# Altium footprint library Antennas.PcbLib: 46 footprints (part 1 of 3)
Each footprint in its own frame and in the unit in brackets; x right, y up, seen from the top. Pads: shape width x height; smd on the part's side, far side on the other; paste and mask are expansions set on the pad; w line width, h text height; cw(c..) or ccw(c..) is an arc to the next point about the centre after c.
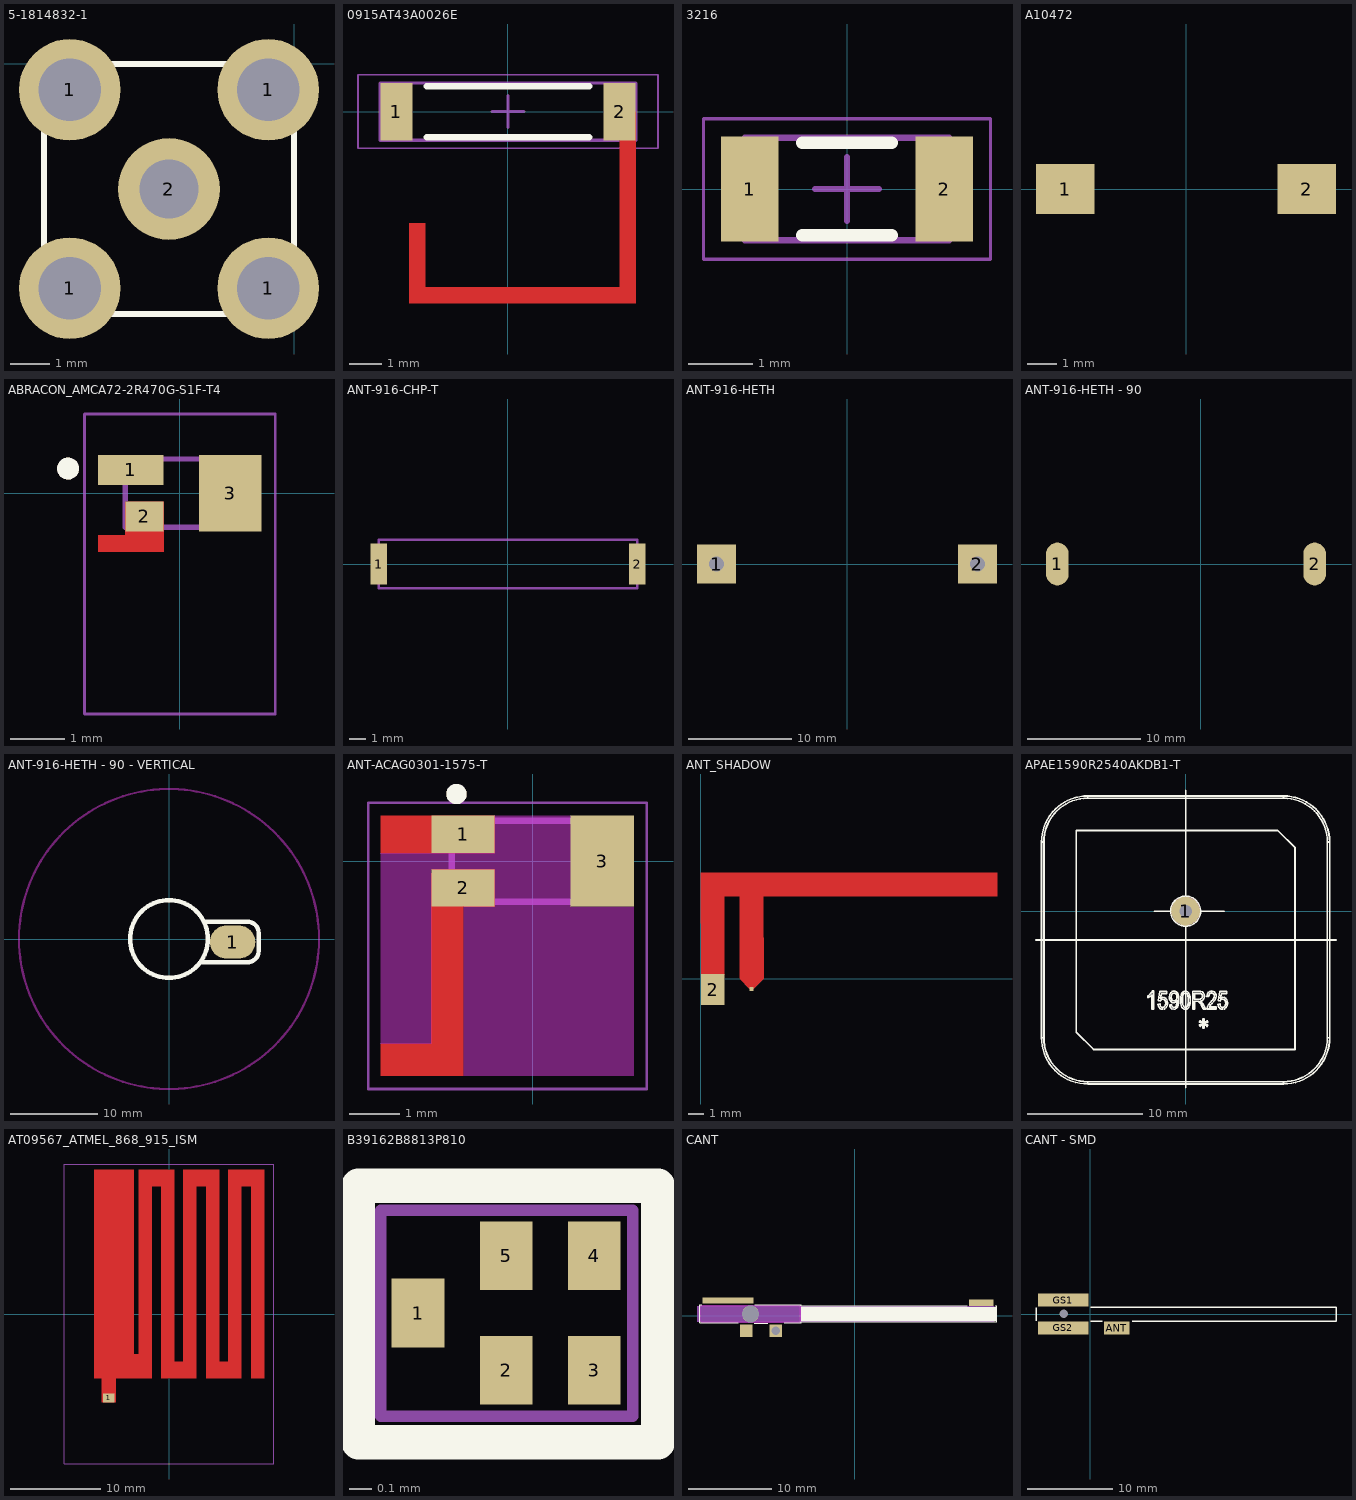
[diagram p0: the footprints below, top view; thin cyan lines are the x and y axes]

## 5-1814832-1 [mm] "CONN SMA JACK STR 50 OHM PCB"
pads (5):
  round 2.6 hole 1.6: 1(-5.74,-5.74) 1(-5.74,-0.66) 1(-0.66,-5.74) 1(-0.66,-0.66)
  round 2.6 hole 1.5: 2(-3.2,-3.2)
Top Overlay:
  lines w0.15: -6.4,-6.4 0,-6.4 0,0 -6.4,0 -6.4,-6.4
3D body "1248990_5-1814832-1.stp": height 9.51, standoff -3.99, extent -6.4,-6.4 0,0

## 0915AT43A0026E [mm] "RF CHIP ANTENNA 902 - 928MHZ"
height 0.8
pads (2):
  rect 1x1.8 smd: 1(-3.5,0) 2(3.5,0)
Top Layer:
  region: -3.1,-6 -3.1,-3.5 -2.6,-3.5 -2.6,-5.5 3.5,-5.5 3.5,0 4,0 4,-6
Top Overlay:
  lines w0.2: -2.55,-0.8 2.55,-0.8 ; -2.55,0.8 2.55,0.8
Mechanical 13:
  lines w0.1: -4,-0.9 -4,0.9 4,0.9 4,-0.9 -4,-0.9
Mechanical 15:
  lines w0.05: -4.7,-1.15 -4.7,1.15 4.7,1.15 4.7,-1.15 -4.7,-1.15
  lines w0.1: -0.5,0 0.5,0 ; 0,-0.5 0,0.5
3D body: height 0.8, standoff 0, extent -3,-0.9 3,0.9
3D body: height 0.8, standoff 0, extent -4,-0.9 -3,0.9
3D body: height 0.8, standoff 0, extent 3,-0.9 4,0.9
3D body: height 0.81, standoff 0, extent -2.667,-0.317 -0.889,0.318

## 3216 [mm] "SMD Chip antenna 3.2x1.6mm"
height 0.55
pads (2):
  rect 0.9x1.65 smd: 1(-1.525,0) 2(1.525,0)
Top Overlay:
  lines w0.2: -0.7,-0.725 0.7,-0.725 ; -0.7,0.725 0.7,0.725
Mechanical 13:
  lines w0.1: -1.6,-0.8 1.6,-0.8 1.6,0.8 -1.6,0.8 -1.6,-0.8
Mechanical 15:
  lines w0.05: -2.25,-1.1 2.25,-1.1 2.25,1.1 -2.25,1.1 -2.25,-1.1
  lines w0.1: -0.5,0 0.5,0 ; 0,-0.5 0,0.5
3D body "RESC3216X06N[1206].step": height 0.55, standoff 0, extent -1.6,-0.8 1.6,0.8

## A10472 [mm] "KIRBii 868/915 MHz Chip Antenna"
pads (2):
  rect 2x1.72 smd: 1(-4.14,0) 2(4.14,0)
3D body "A10472_kirbii.stp": height 3.2, standoff 0, extent -5.004,-1 4.996,1

## ABRACON_AMCA72-2R470G-S1F-T4 [mm] "RF ANT 2.4GHZ CHIP SOLDER SMD"
pads (3):
  rect 1.2x0.55 smd: 1(-0.9,0.425)
  rect 0.7x0.55 smd: 2(-0.65,-0.425)
  rect 1.15x1.4 smd: 3(0.925,0)
Top Layer:
  region: -1,-0.155 -1,-0.775 -1.5,-0.775 -1.5,-1.075 -0.3,-1.075 -0.3,-0.155
Top Overlay:
  circle w0.2: c-2.05,0.45 r0.1
Mechanical 13:
  circle w0.2: c-2.05,0.45 r0.1
  lines w0.1: -1,-0.625 -1,0.625 1,0.625 1,-0.625 -1,-0.625
Mechanical 15:
  lines w0.05: -1.75,-4.05 -1.75,1.45 1.75,1.45 1.75,-4.05 -1.75,-4.05
Multi-Layer:
  pour cut-out: -1.5,-1.075 -0.3,-1.075 -0.3,-0.15 -1,-0.15 -1,-0.775 -1.5,-0.775 -1.5,0.15 -0.3,0.15 -0.3,0.7 -1.5,0.7 -1.5,1.2 1.5,1.2 1.5,0.7 0.35,0.7 0.35,-0.7 1.5,-0.7 1.5,-3.8 -1.5,-3.8
3D body "ACAG0201-2450-T.STEP": height 0.6, standoff 0, extent -1,-0.625 1,0.625

## ANT-916-CHP-T [mm] "CHIP 916MHZ CERAMIC SMD"
pads (2):
  rect 1.016x2.54 smd: 1(-8,0) 2(8,0)
Mechanical 2:
  lines w0.152: -8,-1.5 8,-1.5 8,1.5 -8,1.5 -8,-1.5
3D body: height 1.4, standoff 0, extent -8,-1.372 7.977,1.372
3D body: height 1.5, standoff 0, extent -8.038,-1.41 -6.539,1.41
3D body: height 1.5, standoff 0, extent 6.516,-1.41 8.015,1.41

## ANT-916-HETH [mm]
pads (2):
  rect 3.8x3.8 hole 1.5: 1(-12.7,0) 2(12.7,0)
3D body "ANTENA ESPIRAL.stp": height 12.45, standoff -0.94, extent -11.967,-4.576 12.065,4.322

## ANT-916-HETH - 90 [mm]
pads (2):
  rrect100% 2x3.8 smd: 1(-12.7,0) 2(10.109,0)
3D body "ANTENA ESPIRAL.stp": height 5.54, standoff -3.36, extent -13.278,-1.827 10.754,11.56

## ANT-916-HETH - 90 - VERTICAL [mm]
pads (1):
  rrect100% 5.2x3.8 smd: 1(7.275,-0.35)
Top Overlay:
  circle w0.5: c0,0 r4.45
  lines w0.5: 3.6,-2.675 cw(c3.66,-2.735) 3.66,-2.65 8.653,-2.65 8.98,-2.65 ccw(c8.98,-1.38) 10.25,-1.38 10.25,0.705 ccw(c8.98,0.705) 8.98,1.975 8.55,1.975 4.075,1.975
Keep-Out Layer:
  circle w0.254: c0,0 r17.15
3D body "ANTENA ESPIRAL.stp": height 24.72, standoff 0.69, extent -4.185,-4.319 9.202,4.578

## ANT-ACAG0301-1575-T [mm]
pads (3):
  rect 1.25x0.74 smd: 1(-1.375,0.53) 2(-1.375,-0.53)
  rect 1.25x1.8 smd: 3(1.375,0)
Top Layer:
  region: -0.75,-0.9 -1.37,-0.9 -1.37,-4.24 -3,-4.24 -3,-3.61 -2,-3.61 -2,-0.235 -1.865,-0.22 -2.005,-0.16 -0.75,-0.16
  region: -0.75,0.16 -3,0.16 -3,0.47 -3,0.9 -0.75,0.9
Top Overlay:
  circle w0.2: c-1.505,1.325 r0.1
Keep-Out Layer:
  region: 2,-4.24 -1.365,-4.24 -1.365,-0.9 2,-0.9
  region: -2,-3.61 -3,-3.61 -3,0.16 -2,0.16
  region: -0.75,-0.16 -2,-0.16 -2,0.16 -0.75,0.16
  region: 0.75,-0.9 -0.75,-0.9 -0.75,0.9 0.75,0.9
Mechanical 13:
  circle w0.2: c-1.505,1.325 r0.1
  lines w0.127: -1.6,-0.8 -1.6,0.8 1.6,0.8 1.6,-0.8 -1.6,-0.8
Mechanical 15:
  lines w0.05: -3.25,-4.5 -3.25,1.15 2.25,1.15 2.25,-4.5 -3.25,-4.5
3D body: height 1.35, standoff 0, extent -1.038,-0.595 -0.283,-0.065
3D body "User Library-2450AT18A100E.STEP": height 1.35, standoff -0.05, extent -1.65,-0.85 1.65,0.85

## ANT_SHADOW [mil]
pads (2):
  rect 10x10 smd paste+0 mask+0: 1(128,-25)
  rect 59.06x78.74 smd paste+0 mask+0: 2(30,-27)
Top Layer:
  region: 1,10 0,267.72 748.03,267.72 748.03,208.66 157.48,208.66 158.95,0.69 134,-25 122,-25 97.95,0.69 98.43,208.66 59.06,208.66 59,10

## APAE1590R2540AKDB1-T [mm]
pads (1):
  round 2.5 hole 1.1: 1(0,0)
Top Overlay:
  drawing of 597 lines, arcs and shapes, not listed
3D body "APAE1590R2540AKDB1-T.STEP": height 4.8, standoff -3.1, extent -18,-14.989 12.5,10.011

## AT09567_ATMEL_868_915_ISM [mm]
pads (1):
  rect 1.3x1 smd mask+0.05: 1(-6.7,-9.3)
Top Layer:
  rectangle: 6.569,-7.14 8.069,16.06
  rectangle: 8.05,14.17 9.1,16.06
  rectangle: 9.079,-7.14 10.579,16.06
  rectangle: 5.575,-7.14 6.575,-5.25
  rectangle: -8.31,-7.14 -3.91,16.06
  rectangle: -3.41,-7.14 -1.91,16.06
  rectangle: -3.917,-7.14 -3.379,-4.44
  rectangle: -7.51,-9.85 -5.91,-7.125
  rectangle: -1.91,14.17 -0.9,16.06
  rectangle: -0.9,-7.14 0.6,16.06
  rectangle: 0.575,-7.14 1.61,-5.25
  rectangle: 4.09,-7.14 5.59,16.06
  rectangle: 3.05,14.17 4.1,16.06
  rectangle: 1.58,-7.14 3.08,16.06
Mechanical 1:
  lines w0.1: -11.65,-16.65 -11.65,16.65 11.65,16.65 11.65,-16.65 -11.65,-16.65
Multi-Layer:
  pour cut-out: -11.65,16.65 11.65,16.65 11.65,-9.85 -11.65,-9.85

## B39162B8813P810 [mm]
pads (5):
  rect 0.23x0.3 smd mask+0.068: 1(-1.448,0.584) 2(-1.063,0.334) 3(-0.678,0.334) 4(-0.678,0.834) 5(-1.063,0.834)
Top Overlay:
  lines w0.15: -1.71,0.02 -1.71,1.14 -0.4,1.14 -0.4,0.02 -1.71,0.02
Mechanical 11:
  lines w0.05: -1.61,0.133 -0.51,0.133 -0.51,1.033 -1.61,1.033 -1.61,0.133
3D body: height 0.45, standoff 0, extent -1.519,0.5 -1.36,0.66
3D body: height 0.45, standoff 0.2, extent -1.61,0.13 -0.51,1.03
3D body: height 0.2, standoff 0, extent -1.61,0.13 -0.51,1.03

## CANT [mil]
pads (5):
  rect 0x0 hole 80 square unplated: 0(-492.5,7.5)
  rect 60x60 all layers, no hole: ANT(-372.5,-71.5)
  rect 60x60 smd: GS1(-512.5,-71.5)
  rect 240x27.56 smd: GS2(-597.5,71.5)
  rect 115x30 smd: S(597.5,60.5)
via -372.5,-71.5 diameter 39.37 hole 39.37
Top Overlay:
  rectangle: -252.5,-24.5 672.5,40.5
  lines w5: -722.5,50.5 -732.5,50.5 -732.5,-34.5 -550.5,-34.5 ; -474.5,-35.5 -410.5,-35.5 ; -472.5,50.5 -252.5,50.5 -252.5,45.5 532.5,45.5 ; -332.5,-34.5 -252.5,-34.5 -252.5,-29.5 672.5,-29.5 672.5,45.5 664.5,45.5
Bottom Overlay:
  lines w5: -733.5,-34.5 -733.5,50.5 -473.5,50.5 -253.5,50.5 -253.5,-29.5 -253.5,-34.5 -551.5,-34.5 -733.5,-34.5
Keep-Out Layer:
  lines w6: -732.5,-30.5 -257.5,-30.5 -257.5,45.5 -732.5,45.5 -732.5,-30.5
Mechanical 1:
  lines w0: -727.5,-29.5 -727.5,45.5 -257.5,45.5 -257.5,-29.5 -727.5,-29.5
Mechanical 11:
  rectangle: -744.5,-29.5 660.5,45.5
Mechanical 113:
  rectangle: -727.5,-14.5 672.5,35.5
3D body: height 3.94, standoff 0, extent 540,44.5 655,65.5
3D body: height 3.94, standoff 0, extent -716.5,42.5 -482.5,65.5
3D body: height 3.94, standoff 0, extent -402.5,-66.25 -342.5,-26
3D body: height 3.94, standoff 0, extent -542.5,-59.5 -482.5,-26
3D body: height 19.68, standoff 0, extent 540,39.5 655,44.5
3D body: height 19.68, standoff 0, extent -542.5,-26 -482.5,-23
3D body: height 19.68, standoff 0, extent -402.5,-26 -342.5,-23
3D body: height 19.68, standoff 0, extent -716.5,39.5 -482.5,42.5
3D body "ant.step": height 288.5, standoff -65.52, extent -723.5,-23.1 654.5,40.1

## CANT - SMD [mm]
pads (4):
  rect 3x1.524 smd: ANT(3.15,-1.644)
  rect 5.9x1.5 smd: GS1(-3.15,1.644) GS2(-3.15,-1.632)
  rect 0x0 hole 1 square: S(-3.099,0.025)
Top Overlay:
  lines w0.16: -6.325,-0.755 -6.325,0.743 ; 0.102,-0.831 1.422,-0.831 ; 0.102,0.82 28.804,0.82 28.804,-0.831 4.953,-0.831
3D body "smd_ant.step": height 6.46, standoff 0.01, extent -6.325,-0.806 28.677,0.805